# Altium footprint library Connector_PinHeader_2.00mm.PcbLib: 278 footprints (part 1 of 18)
Each footprint in its own frame and in the unit in brackets; x right, y up, seen from the top. Pads: shape width x height; smd on the part's side, far side on the other; paste and mask are expansions set on the pad; w line width, h text height; cw(c..) or ccw(c..) is an arc to the next point about the centre after c.
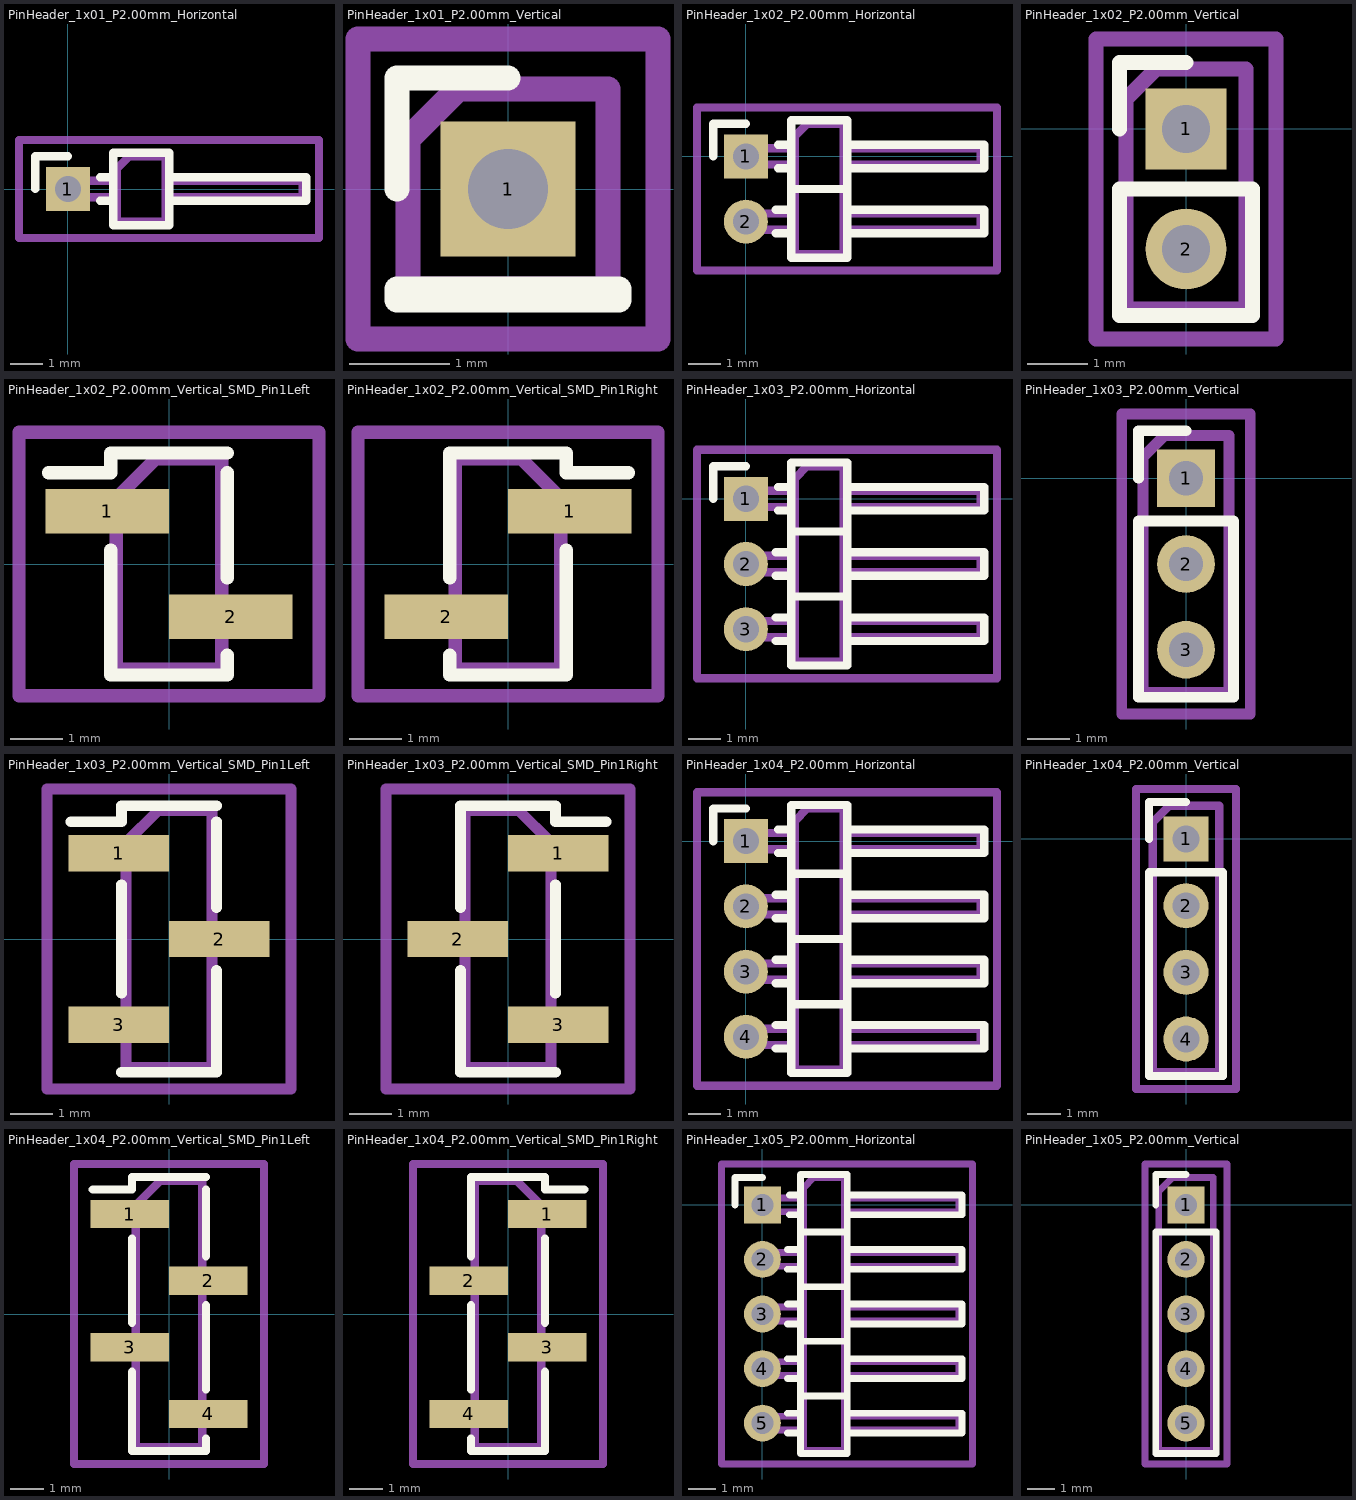
[diagram p0: the footprints below, top view; thin cyan lines are the x and y axes]

## PinHeader_1x01_P2.00mm_Horizontal [mm]
pads (1):
  rect 1.35x1.35 hole 0.8: 1(0,0)
F.SilkS:
  lines w0.254: -1,0 -1,1 0,1 ; 0.985,-0.36 1.39,-0.36 ; 0.985,0.36 1.39,0.36 ; 1.39,-1.11 1.39,1.11 3.11,1.11 3.11,-1.11 1.39,-1.11 ; 3.11,-0.36 3.11,0.36 7.31,0.36 7.31,-0.36 3.11,-0.36
Top Assembly:
  lines w0.254: 1.5,-0.25 -0.25,-0.25 -0.25,0.25 1.5,0.25 ; 3,-0.25 7.2,-0.25 7.2,0.25 3,0.25 ; 1.5,-1 1.5,0.625 1.875,1 3,1 3,-1 1.5,-1
  text "'.Designator'" at 3.006,-3.642 h0.9
Top Courtyard:
  lines w0.254: -1.5,-1.5 -1.5,1.5 7.7,1.5 7.7,-1.5 -1.5,-1.5
Top Designator:
  text ".Designator" at -4.518,-0.643 h1.52

## PinHeader_1x01_P2.00mm_Vertical [mm]
pads (1):
  rect 1.35x1.35 hole 0.8: 1(0,0)
F.SilkS:
  lines w0.254: -1.11,0 -1.11,1.11 0,1.11 ; -1.11,-1.11 1.11,-1.11 1.11,-1 -1.11,-1 -1.11,-1.11
Top Assembly:
  lines w0.254: -1,-1 1,-1 1,1 -0.5,1 -1,0.5 -1,-1
  text "'.Designator'" at 0.84,-4.047 h1
Top Courtyard:
  lines w0.254: -1.5,-1.5 1.5,-1.5 1.5,1.5 -1.5,1.5 -1.5,-1.5
Top Designator:
  text ".Designator" at -7.618,-0.658 h1.52

## PinHeader_1x02_P2.00mm_Horizontal [mm]
pads (2):
  rect 1.35x1.35 hole 0.8: 1(0,0)
  round 1.35 hole 0.8: 2(0,-2)
F.SilkS:
  lines w0.254: -1,0 -1,1 0,1 ; 0.917,-2.36 1.39,-2.36 ; 0.917,-1.64 1.39,-1.64 ; 0.985,-0.36 1.39,-0.36 ; 0.985,0.36 1.39,0.36 ; 1.39,-1 3.11,-1 ; 3.11,-2.36 7.31,-2.36 7.31,-1.64 3.11,-1.64 ; 1.39,-3.11 3.11,-3.11 3.11,1.11 1.39,1.11 1.39,-3.11 ; 3.11,-0.36 7.31,-0.36 7.31,0.36 3.11,0.36 3.11,-0.36
Top Assembly:
  lines w0.254: 1.5,-2.25 -0.25,-2.25 -0.25,-1.75 1.5,-1.75 ; 1.5,-0.25 -0.25,-0.25 -0.25,0.25 1.5,0.25 ; 3,-2.25 7.2,-2.25 7.2,-1.75 3,-1.75 ; 3,-0.25 7.2,-0.25 7.2,0.25 3,0.25 ; 1.5,-3 3,-3 3,1 1.875,1 1.5,0.625 1.5,-3
  text "'.Designator'" at 3.006,-4.642 h0.9
Top Courtyard:
  lines w0.254: -1.5,-3.5 7.7,-3.5 7.7,1.5 -1.5,1.5 -1.5,-3.5
Top Designator:
  text ".Designator" at -4.518,-1.643 h1.52

## PinHeader_1x02_P2.00mm_Vertical [mm]
pads (2):
  rect 1.35x1.35 hole 0.8: 1(0,0)
  round 1.35 hole 0.8: 2(0,-2)
F.SilkS:
  lines w0.254: -1.11,0 -1.11,1.11 0,1.11 ; -1.11,-3.11 1.11,-3.11 1.11,-1 -1.11,-1 -1.11,-3.11
Top Assembly:
  lines w0.254: -1,-3 1,-3 1,1 -0.5,1 -1,0.5 -1,-3
  text "'.Designator'" at 0.84,-5.047 h1
Top Courtyard:
  lines w0.254: -1.5,-3.5 1.5,-3.5 1.5,1.5 -1.5,1.5 -1.5,-3.5
Top Designator:
  text ".Designator" at -7.618,-1.658 h1.52

## PinHeader_1x02_P2.00mm_Vertical_SMD_Pin1Left [mm]
pads (2):
  rect 2.35x0.85 smd: 1(-1.175,1) 2(1.175,-1)
F.SilkS:
  lines w0.254: -2.29,1.735 -1.11,1.735 -1.11,2.11 1.11,2.11 ; -1.11,0.265 -1.11,-2.11 1.11,-2.11 1.11,-1.735 ; 1.11,-0.265 1.11,1.735
Top Assembly:
  lines w0.254: -1,0.75 -2.1,0.75 -2.1,1.25 -1,1.25 ; 1,-1.25 2.1,-1.25 2.1,-0.75 1,-0.75 ; -1,1.25 -1,-2 1,-2 1,2 -0.25,2 -1,1.25
  text "'.Designator'" at 0.84,-4.047 h1
Top Courtyard:
  lines w0.254: -2.85,-2.5 2.85,-2.5 2.85,2.5 -2.85,2.5 -2.85,-2.5
Top Designator:
  text ".Designator" at -7.618,-0.658 h1.52

## PinHeader_1x02_P2.00mm_Vertical_SMD_Pin1Right [mm]
pads (2):
  rect 2.35x0.85 smd: 1(1.175,1) 2(-1.175,-1)
F.SilkS:
  lines w0.254: -1.11,-1.735 -1.11,-2.11 1.11,-2.11 1.11,0.265 ; -1.11,1.735 -1.11,-0.265 -1.11,2.11 1.11,2.11 1.11,1.735 2.29,1.735
Top Assembly:
  lines w0.254: -1,-1.25 -2.1,-1.25 -2.1,-0.75 -1,-0.75 ; 1,0.75 2.1,0.75 2.1,1.25 1,1.25 ; 1,1.25 1,-2 -1,-2 -1,2 0.25,2 1,1.25
  text "'.Designator'" at 0.84,-4.047 h1
Top Courtyard:
  lines w0.254: -2.85,-2.5 2.85,-2.5 2.85,2.5 -2.85,2.5 -2.85,-2.5
Top Designator:
  text ".Designator" at -7.618,-0.658 h1.52

## PinHeader_1x03_P2.00mm_Horizontal [mm]
pads (3):
  rect 1.35x1.35 hole 0.8: 1(0,0)
  round 1.35 hole 0.8: 2(0,-2) 3(0,-4)
F.SilkS:
  lines w0.254: -1,0 -1,1 0,1 ; 0.917,-4.36 1.39,-4.36 ; 0.917,-3.64 1.39,-3.64 ; 0.917,-2.36 1.39,-2.36 ; 0.917,-1.64 1.39,-1.64 ; 0.985,-0.36 1.39,-0.36 ; 0.985,0.36 1.39,0.36 ; 1.39,-3 3.11,-3 ; 1.39,-1 3.11,-1 ; 3.11,-4.36 7.31,-4.36 7.31,-3.64 3.11,-3.64 ; 3.11,-2.36 7.31,-2.36 7.31,-1.64 3.11,-1.64 ; 1.39,-5.11 3.11,-5.11 3.11,1.11 1.39,1.11 1.39,-5.11 ; 3.11,-0.36 7.31,-0.36 7.31,0.36 3.11,0.36 3.11,-0.36
Top Assembly:
  lines w0.254: 1.5,-4.25 -0.25,-4.25 -0.25,-3.75 1.5,-3.75 ; 1.5,-2.25 -0.25,-2.25 -0.25,-1.75 1.5,-1.75 ; 1.5,-0.25 -0.25,-0.25 -0.25,0.25 1.5,0.25 ; 3,-4.25 7.2,-4.25 7.2,-3.75 3,-3.75 ; 3,-2.25 7.2,-2.25 7.2,-1.75 3,-1.75 ; 3,-0.25 7.2,-0.25 7.2,0.25 3,0.25 ; 1.5,-5 3,-5 3,1 1.875,1 1.5,0.625 1.5,-5
  text "'.Designator'" at 3.006,-5.642 h0.9
Top Courtyard:
  lines w0.254: -1.5,-5.5 7.7,-5.5 7.7,1.5 -1.5,1.5 -1.5,-5.5
Top Designator:
  text ".Designator" at -4.518,-2.583 h1.52

## PinHeader_1x03_P2.00mm_Vertical [mm]
pads (3):
  rect 1.35x1.35 hole 0.8: 1(0,0)
  round 1.35 hole 0.8: 2(0,-2) 3(0,-4)
F.SilkS:
  lines w0.254: -1.11,0 -1.11,1.11 0,1.11 ; -1.11,-5.11 1.11,-5.11 1.11,-1 -1.11,-1 -1.11,-5.11
Top Assembly:
  lines w0.254: -1,-5 1,-5 1,1 -0.5,1 -1,0.5 -1,-5
  text "'.Designator'" at 0.84,-6.047 h1
Top Courtyard:
  lines w0.254: -1.5,-5.5 1.5,-5.5 1.5,1.5 -1.5,1.5 -1.5,-5.5
Top Designator:
  text ".Designator" at -7.618,-2.658 h1.52

## PinHeader_1x03_P2.00mm_Vertical_SMD_Pin1Left [mm]
pads (3):
  rect 2.35x0.85 smd: 1(-1.175,2) 2(1.175,0) 3(-1.175,-2)
F.SilkS:
  lines w0.254: -2.29,2.735 -1.11,2.735 -1.11,3.11 1.11,3.11 ; -1.11,-3.11 1.11,-3.11 ; -1.11,-1.265 -1.11,1.265 ; 1.11,-2.735 1.11,-3.11 ; 1.11,-0.735 1.11,-3.11 ; 1.11,0.735 1.11,2.735
Top Assembly:
  lines w0.254: -1,-2.25 -2.1,-2.25 -2.1,-1.75 -1,-1.75 ; -1,1.75 -2.1,1.75 -2.1,2.25 -1,2.25 ; 1,-0.25 2.1,-0.25 2.1,0.25 1,0.25 ; -1,2.25 -1,-3 1,-3 1,3 -0.25,3 -1,2.25
  text "'.Designator'" at 0.84,-4.047 h1
Top Courtyard:
  lines w0.254: -2.85,-3.5 2.85,-3.5 2.85,3.5 -2.85,3.5 -2.85,-3.5
Top Designator:
  text ".Designator" at -7.618,-0.658 h1.52

## PinHeader_1x03_P2.00mm_Vertical_SMD_Pin1Right [mm]
pads (3):
  rect 2.35x0.85 smd: 1(1.175,2) 2(-1.175,0) 3(1.175,-2)
F.SilkS:
  lines w0.254: -1.11,-2.735 -1.11,-3.11 ; -1.11,-0.735 -1.11,-3.11 ; -1.11,2.735 -1.11,0.735 -1.11,3.11 1.11,3.11 1.11,2.735 2.29,2.735 ; 1.11,-3.11 -1.11,-3.11 ; 1.11,-1.265 1.11,1.265
Top Assembly:
  lines w0.254: -1,-0.25 -2.1,-0.25 -2.1,0.25 -1,0.25 ; 1,-2.25 2.1,-2.25 2.1,-1.75 1,-1.75 ; 1,1.75 2.1,1.75 2.1,2.25 1,2.25 ; 1,2.25 1,-3 -1,-3 -1,3 0.25,3 1,2.25
  text "'.Designator'" at 0.84,-4.047 h1
Top Courtyard:
  lines w0.254: -2.85,-3.5 2.85,-3.5 2.85,3.5 -2.85,3.5 -2.85,-3.5
Top Designator:
  text ".Designator" at -7.618,-0.658 h1.52

## PinHeader_1x04_P2.00mm_Horizontal [mm]
pads (4):
  rect 1.35x1.35 hole 0.8: 1(0,0)
  round 1.35 hole 0.8: 2(0,-2) 3(0,-4) 4(0,-6)
F.SilkS:
  lines w0.254: -1,0 -1,1 0,1 ; 0.917,-6.36 1.39,-6.36 ; 0.917,-5.64 1.39,-5.64 ; 0.917,-4.36 1.39,-4.36 ; 0.917,-3.64 1.39,-3.64 ; 0.917,-2.36 1.39,-2.36 ; 0.917,-1.64 1.39,-1.64 ; 0.985,-0.36 1.39,-0.36 ; 0.985,0.36 1.39,0.36 ; 1.39,-5 3.11,-5 ; 1.39,-3 3.11,-3 ; 1.39,-1 3.11,-1 ; 3.11,-6.36 7.31,-6.36 7.31,-5.64 3.11,-5.64 ; 3.11,-4.36 7.31,-4.36 7.31,-3.64 3.11,-3.64 ; 3.11,-2.36 7.31,-2.36 7.31,-1.64 3.11,-1.64 ; 1.39,-7.11 3.11,-7.11 3.11,1.11 1.39,1.11 1.39,-7.11 ; 3.11,-0.36 7.31,-0.36 7.31,0.36 3.11,0.36 3.11,-0.36
Top Assembly:
  lines w0.254: 1.5,-6.25 -0.25,-6.25 -0.25,-5.75 1.5,-5.75 ; 1.5,-4.25 -0.25,-4.25 -0.25,-3.75 1.5,-3.75 ; 1.5,-2.25 -0.25,-2.25 -0.25,-1.75 1.5,-1.75 ; 1.5,-0.25 -0.25,-0.25 -0.25,0.25 1.5,0.25 ; 3,-6.25 7.2,-6.25 7.2,-5.75 3,-5.75 ; 3,-4.25 7.2,-4.25 7.2,-3.75 3,-3.75 ; 3,-2.25 7.2,-2.25 7.2,-1.75 3,-1.75 ; 3,-0.25 7.2,-0.25 7.2,0.25 3,0.25 ; 1.5,-7 3,-7 3,1 1.875,1 1.5,0.625 1.5,-7
  text "'.Designator'" at 3.006,-6.642 h0.9
Top Courtyard:
  lines w0.254: -1.5,-7.5 7.7,-7.5 7.7,1.5 -1.5,1.5 -1.5,-7.5
Top Designator:
  text ".Designator" at -4.518,-3.508 h1.52

## PinHeader_1x04_P2.00mm_Vertical [mm]
pads (4):
  rect 1.35x1.35 hole 0.8: 1(0,0)
  round 1.35 hole 0.8: 2(0,-2) 3(0,-4) 4(0,-6)
F.SilkS:
  lines w0.254: -1.11,0 -1.11,1.11 0,1.11 ; -1.11,-7.11 1.11,-7.11 1.11,-1 -1.11,-1 -1.11,-7.11
Top Assembly:
  lines w0.254: -1,-7 1,-7 1,1 -0.5,1 -1,0.5 -1,-7
  text "'.Designator'" at 0.84,-7.047 h1
Top Courtyard:
  lines w0.254: -1.5,-7.5 1.5,-7.5 1.5,1.5 -1.5,1.5 -1.5,-7.5
Top Designator:
  text ".Designator" at -7.618,-3.508 h1.52

## PinHeader_1x04_P2.00mm_Vertical_SMD_Pin1Left [mm]
pads (4):
  rect 2.35x0.85 smd: 1(-1.175,3) 2(1.175,1) 3(-1.175,-1) 4(1.175,-3)
F.SilkS:
  lines w0.254: -2.29,3.735 -1.11,3.735 -1.11,4.11 1.11,4.11 ; -1.11,-1.735 -1.11,-4.11 1.11,-4.11 1.11,-3.735 ; -1.11,-0.265 -1.11,2.265 ; 1.11,-2.265 1.11,0.265 ; 1.11,1.735 1.11,3.735
Top Assembly:
  lines w0.254: -1,-1.25 -2.1,-1.25 -2.1,-0.75 -1,-0.75 ; -1,2.75 -2.1,2.75 -2.1,3.25 -1,3.25 ; 1,-3.25 2.1,-3.25 2.1,-2.75 1,-2.75 ; 1,0.75 2.1,0.75 2.1,1.25 1,1.25 ; -1,3.25 -1,-4 1,-4 1,4 -0.25,4 -1,3.25
  text "'.Designator'" at 0.84,-4.047 h1
Top Courtyard:
  lines w0.254: -2.85,-4.5 2.85,-4.5 2.85,4.5 -2.85,4.5 -2.85,-4.5
Top Designator:
  text ".Designator" at -7.618,-0.508 h1.52

## PinHeader_1x04_P2.00mm_Vertical_SMD_Pin1Right [mm]
pads (4):
  rect 2.35x0.85 smd: 1(1.175,3) 2(-1.175,1) 3(1.175,-1) 4(-1.175,-3)
F.SilkS:
  lines w0.254: -1.11,-3.735 -1.11,-4.11 1.11,-4.11 1.11,-1.735 ; -1.11,-2.265 -1.11,0.265 ; -1.11,3.735 -1.11,1.735 -1.11,4.11 1.11,4.11 1.11,3.735 2.29,3.735 ; 1.11,-0.265 1.11,2.265
Top Assembly:
  lines w0.254: -1,-3.25 -2.1,-3.25 -2.1,-2.75 -1,-2.75 ; -1,0.75 -2.1,0.75 -2.1,1.25 -1,1.25 ; 1,-1.25 2.1,-1.25 2.1,-0.75 1,-0.75 ; 1,2.75 2.1,2.75 2.1,3.25 1,3.25 ; 1,3.25 1,-4 -1,-4 -1,4 0.25,4 1,3.25
  text "'.Designator'" at 0.84,-4.047 h1
Top Courtyard:
  lines w0.254: -2.85,-4.5 2.85,-4.5 2.85,4.5 -2.85,4.5 -2.85,-4.5
Top Designator:
  text ".Designator" at -7.618,-0.508 h1.52

## PinHeader_1x05_P2.00mm_Horizontal [mm]
pads (5):
  rect 1.35x1.35 hole 0.8: 1(0,0)
  round 1.35 hole 0.8: 2(0,-2) 3(0,-4) 4(0,-6) 5(0,-8)
F.SilkS:
  lines w0.254: -1,0 -1,1 0,1 ; 0.917,-8.36 1.39,-8.36 ; 0.917,-7.64 1.39,-7.64 ; 0.917,-6.36 1.39,-6.36 ; 0.917,-5.64 1.39,-5.64 ; 0.917,-4.36 1.39,-4.36 ; 0.917,-3.64 1.39,-3.64 ; 0.917,-2.36 1.39,-2.36 ; 0.917,-1.64 1.39,-1.64 ; 0.985,-0.36 1.39,-0.36 ; 0.985,0.36 1.39,0.36 ; 1.39,-7 3.11,-7 ; 1.39,-5 3.11,-5 ; 1.39,-3 3.11,-3 ; 1.39,-1 3.11,-1 ; 3.11,-8.36 7.31,-8.36 7.31,-7.64 3.11,-7.64 ; 3.11,-6.36 7.31,-6.36 7.31,-5.64 3.11,-5.64 ; 3.11,-4.36 7.31,-4.36 7.31,-3.64 3.11,-3.64 ; 3.11,-2.36 7.31,-2.36 7.31,-1.64 3.11,-1.64 ; 1.39,-9.11 3.11,-9.11 3.11,1.11 1.39,1.11 1.39,-9.11 ; 3.11,-0.36 7.31,-0.36 7.31,0.36 3.11,0.36 3.11,-0.36
Top Assembly:
  lines w0.254: 1.5,-8.25 -0.25,-8.25 -0.25,-7.75 1.5,-7.75 ; 1.5,-6.25 -0.25,-6.25 -0.25,-5.75 1.5,-5.75 ; 1.5,-4.25 -0.25,-4.25 -0.25,-3.75 1.5,-3.75 ; 1.5,-2.25 -0.25,-2.25 -0.25,-1.75 1.5,-1.75 ; 1.5,-0.25 -0.25,-0.25 -0.25,0.25 1.5,0.25 ; 3,-8.25 7.2,-8.25 7.2,-7.75 3,-7.75 ; 3,-6.25 7.2,-6.25 7.2,-5.75 3,-5.75 ; 3,-4.25 7.2,-4.25 7.2,-3.75 3,-3.75 ; 3,-2.25 7.2,-2.25 7.2,-1.75 3,-1.75 ; 3,-0.25 7.2,-0.25 7.2,0.25 3,0.25 ; 1.5,-9 3,-9 3,1 1.875,1 1.5,0.625 1.5,-9
  text "'.Designator'" at 3.006,-7.642 h0.9
Top Courtyard:
  lines w0.254: -1.5,-9.5 7.7,-9.5 7.7,1.5 -1.5,1.5 -1.5,-9.5
Top Designator:
  text ".Designator" at -4.518,-4.508 h1.52

## PinHeader_1x05_P2.00mm_Vertical [mm]
pads (5):
  rect 1.35x1.35 hole 0.8: 1(0,0)
  round 1.35 hole 0.8: 2(0,-2) 3(0,-4) 4(0,-6) 5(0,-8)
F.SilkS:
  lines w0.254: -1.11,0 -1.11,1.11 0,1.11 ; -1.11,-9.11 1.11,-9.11 1.11,-1 -1.11,-1 -1.11,-9.11
Top Assembly:
  lines w0.254: -1,-9 1,-9 1,1 -0.5,1 -1,0.5 -1,-9
  text "'.Designator'" at 0.84,-8.047 h1
Top Courtyard:
  lines w0.254: -1.5,-9.5 1.5,-9.5 1.5,1.5 -1.5,1.5 -1.5,-9.5
Top Designator:
  text ".Designator" at -7.618,-4.508 h1.52